# EAGLE library part MOD_CHIPKIT-UNO (library evansLibrary)
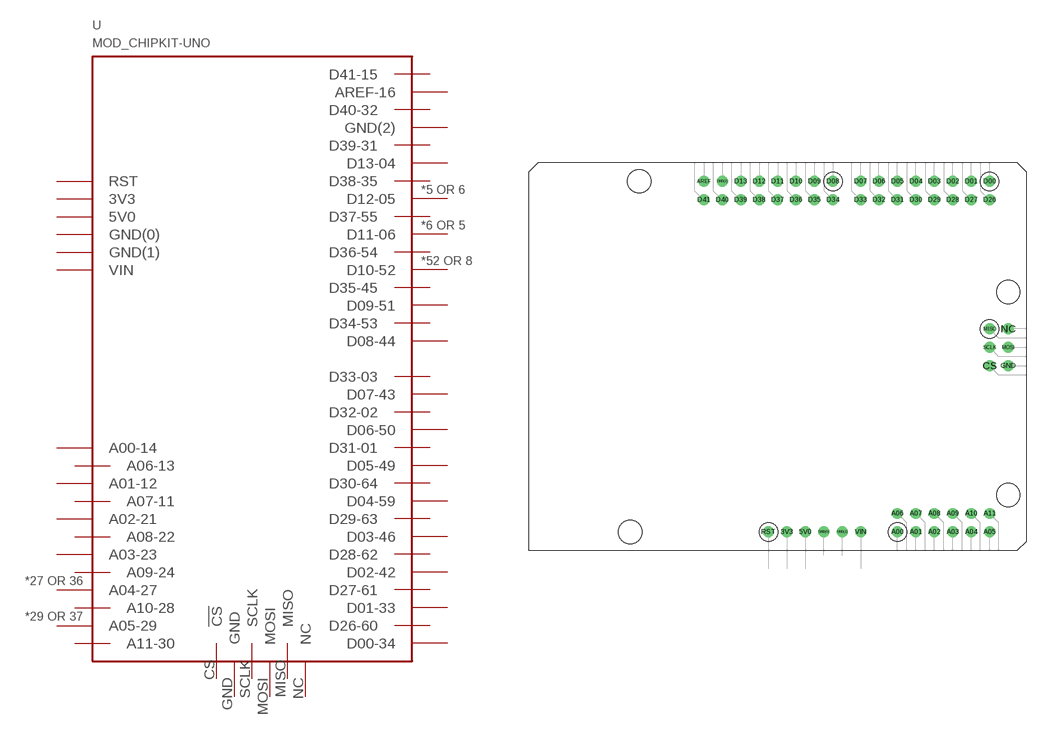
[diagram p4: symbol with the pads of MOD_CHIPKIT-UNO; footprint MOD_CHIPKIT-UNO]

Designator prefix -

## MOD_CHIPKIT-UNO  [MOD_CHIPKIT-UNO]
3V3  3V3
5V0  5V0
A00  A00-14
A01  A01-12
A02  A02-21
A03  A03-23
A04  A04-27
A05  A05-29
A06  A06-13
A07  A07-11
A08  A08-22
A09  A09-24
A10  A10-28
A11  A11-30
AREF  AREF-16
CS  !CS
D00  D00-34
D01  D01-33
D02  D02-42
D03  D03-46
D04  D04-59
D05  D05-49
D06  D06-50
D07  D07-43
D08  D08-44
D09  D09-51
D10  D10-52
D11  D11-06
D12  D12-05
D13  D13-04
D26  D26-60
D27  D27-61
D28  D28-62
D29  D29-63
D30  D30-64
D31  D31-01
D32  D32-02
D33  D33-03
D34  D34-53
D35  D35-45
D36  D36-54
D37  D37-55
D38  D38-35
D39  D39-31
D40  D40-32
D41  D41-15
GND  GND
GND(0)  GND(0)
GND(1)  GND(1)
GND(2)  GND(2)
MISO  MISO
MOSI  MOSI
NC  NC
RST  RST
SCLK  SCLK
VIN  VIN

## Footprint MOD_CHIPKIT-UNO (pad centres in mm)
drill 1: 3V3 35.56,2.54; 5V0 38.1,2.54; A00 50.8,2.54; A01 53.34,2.54; A02 55.88,2.54; A03 58.42,2.54; A04 60.96,2.54; A05 63.5,2.54; A06 50.8,5.08; A07 53.34,5.08; A08 55.88,5.08; A09 58.42,5.08; A10 60.96,5.08; A11 63.5,5.08; AREF 24.13,50.8; CS 63.5,25.4; D00 63.5,50.8; D01 60.96,50.8; D02 58.42,50.8; D03 55.88,50.8; D04 53.34,50.8; D05 50.8,50.8; D06 48.26,50.8; D07 45.72,50.8; D08 41.91,50.8; D09 39.37,50.8; D10 36.83,50.8; D11 34.29,50.8; D12 31.75,50.8; D13 29.21,50.8; D26 63.5,48.26; D27 60.96,48.26; D28 58.42,48.26; D29 55.88,48.26; D30 53.34,48.26; D31 50.8,48.26; D32 48.26,48.26; D33 45.72,48.26; D34 41.91,48.26; D35 39.37,48.26; D36 36.83,48.26; D37 34.29,48.26; D38 31.75,48.26; D39 29.21,48.26; D40 26.67,48.26; D41 24.13,48.26; GND 66.04,25.4; GND(0) 40.64,2.54; GND(1) 43.18,2.54; GND(2) 26.67,50.8; MISO 63.5,30.48; MOSI 66.04,27.94; NC 66.04,30.48; RST 33.02,2.54; SCLK 63.5,27.94; VIN 45.72,2.54
hole 3.2 at 13.97,2.54
hole 3.2 at 66.04,7.62
hole 3.2 at 66.04,35.56
hole 3.2 at 15.24,50.8